# Altium footprint library 7260Q.PcbLib: 1 footprints
Each footprint in its own frame and in the unit in brackets; x right, y up, seen from the top. Pads: shape width x height; smd on the part's side, far side on the other; paste and mask are expansions set on the pad; w line width, h text height; cw(c..) or ccw(c..) is an arc to the next point about the centre after c.
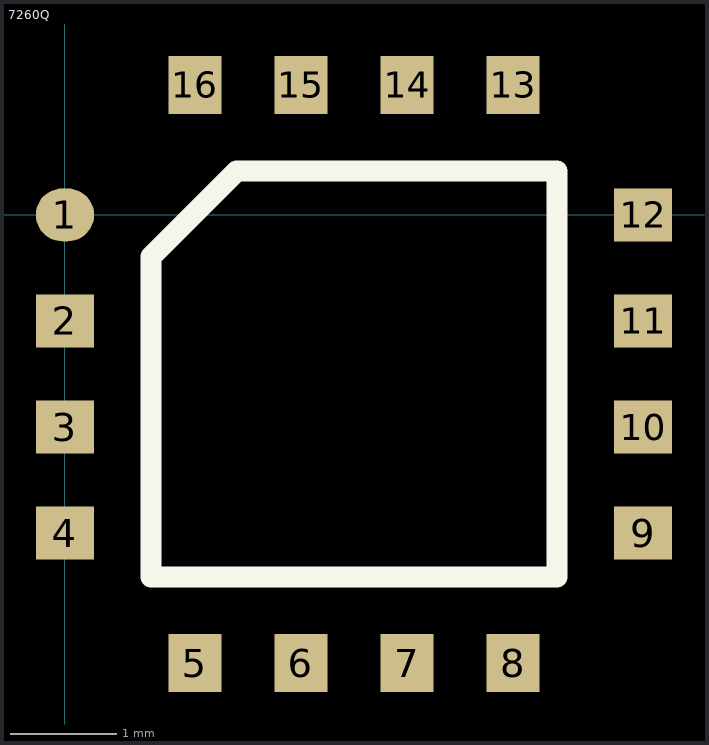
[diagram p0: the footprint, top view; thin cyan lines are the x and y axes]

## 7260Q [mm]
pads (16):
  oval 0.55x0.5 smd: 1(0,0)
  rect 0.55x0.5 smd: 2(0,-1) 3(0,-2) 4(0,-3) 9(5.45,-3) 10(5.45,-2) 11(5.45,-1) 12(5.45,0)
  rect 0.5x0.55 smd: 5(1.225,-4.225) 6(2.225,-4.225) 7(3.225,-4.225) 8(4.225,-4.225) 13(4.225,1.225) 14(3.225,1.225) 15(2.225,1.225) 16(1.225,1.225)
Top Overlay:
  lines w0.2: 0.81,-3.415 0.81,-0.395 1.62,0.415 4.64,0.415 4.64,-3.415 0.81,-3.415